# Altium footprint library LTE-R38386A-ZF-U.PcbLib: 1 footprints
Each footprint in its own frame and in the unit in brackets; x right, y up, seen from the top. Pads: shape width x height; smd on the part's side, far side on the other; paste and mask are expansions set on the pad; w line width, h text height; cw(c..) or ccw(c..) is an arc to the next point about the centre after c.
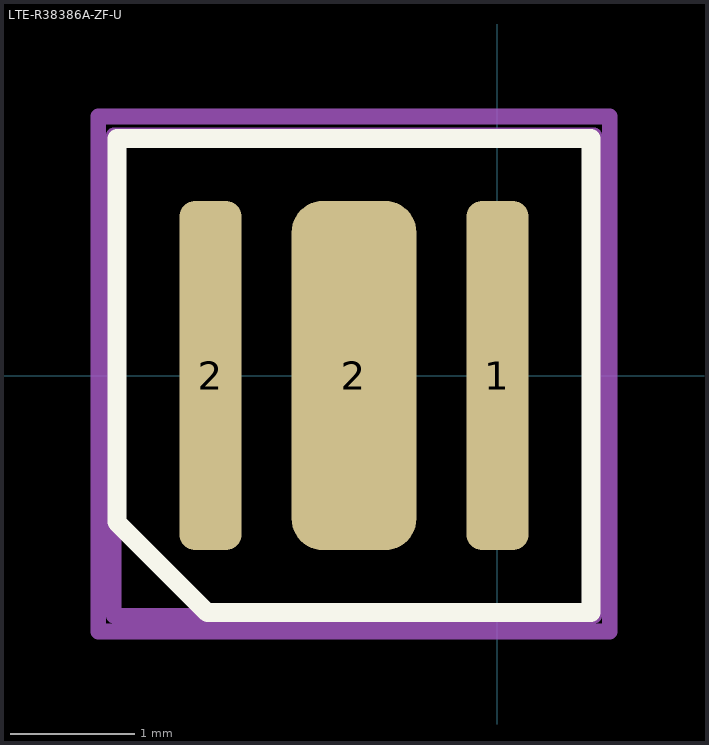
[diagram p0: the footprint, top view; thin cyan lines are the x and y axes]

## LTE-R38386A-ZF-U [mm]
pads (3):
  rrect50% 0.5x2.8 smd: 1(0,0) 2(-2.3,0)
  rrect50% 1x2.8 smd: 2(-1.15,0)
Top Overlay:
  lines w0.152: 0.75,-1.9 -2.325,-1.9 -3.05,-1.175 -3.05,1.9 0.75,1.9 0.75,-1.9
Assembly Top:
  lines w0.127: -3.076,-1.925 -3.076,1.925 0.774,1.925 0.774,-1.925 -3.076,-1.925
Courtyard Top:
  lines w0.127: -3.2,-2.05 0.9,-2.05 0.9,2.075 -3.2,2.075 -3.2,-2.05
3D body "SFH_4715AS_110615_geometry.STEP": height 2.4, standoff 0, extent -3.075,-1.925 0.775,1.925